# EAGLE library part TPS54232 (library JLB6_power)
Texas TPS54231 TPS54232 switching regulator
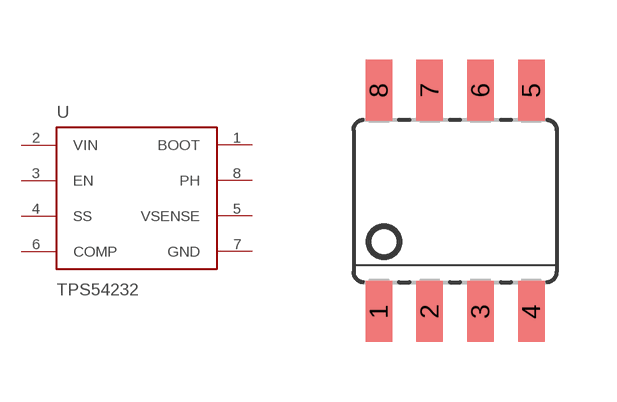
[diagram p10: symbol with the pads of SO8; footprint SO8]

Designator prefix U

## TPS54232  [SO8]
1  BOOT
2  VIN  in
3  EN  in
4  SS
5  VSENSE  in
6  COMP
7  GND  pwr
8  PH  out

## Footprint SO8 (pad centres in mm)
smd 0.66 x 1.524: 1 -1.905,-2.769; 2 -0.635,-2.769; 3 0.635,-2.769; 4 1.905,-2.769; 5 1.905,2.769; 6 0.635,2.769; 7 -0.635,2.769; 8 -1.905,2.769